# EAGLE library part TERMINAL_BLOCK_8 (library open_covg)
8-point terminal block
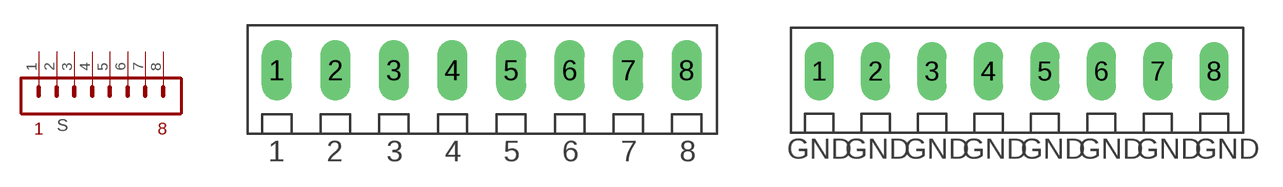
[diagram p9: symbol with the pads of TERMINAL_BLOCK_3.5MM_8; footprints TERMINAL_BLOCK_3.5MM_8, TERMINAL_BLOCK_3.5MM_8_GND]

Designator prefix S

## TERMINAL_BLOCK_8-3.5MM  [TERMINAL_BLOCK_3.5MM_8]
1  1  pas
2  2  pas
3  3  pas
4  4  pas
5  5  pas
6  6  pas
7  7  pas
8  8  pas

## TERMINAL_BLOCK_8-3.5MM-GND  [TERMINAL_BLOCK_3.5MM_8_GND]
Pads as for TERMINAL_BLOCK_3.5MM_8

## Footprint TERMINAL_BLOCK_3.5MM_8 (pad centres in mm)
drill 1.2 long: 1 -12.28,0; 2 -8.78,0; 3 -5.28,0; 4 -1.78,0; 5 1.72,0; 6 5.22,0; 7 8.72,0; 8 12.22,0

## Footprint TERMINAL_BLOCK_3.5MM_8_GND (pad centres in mm)
drill 1.2 long: 1 -12.28,0; 2 -8.78,0; 3 -5.28,0; 4 -1.78,0; 5 1.72,0; 6 5.22,0; 7 8.72,0; 8 12.22,0